# EAGLE library part INA219 (library FlashPCB_Sensors)
INA219BIDR - Current Monitor Regulator High-Side 10mA 8-SOIC Technical Specifications: Function; Current Monitor I2C / SMBUS Compatible Sensing Method: High-Side Accuracy +/- 5% Voltage - Input: 0V ~26V Current - Output: 10mA Component Search: INA219 <[FLASHPCB URL]> Datasheet: INA219 Zerø-Drift, Bidirectional Current/Power Monitor With I2C Interface datasheet (Rev. G) <https://www.ti.com/lit/ds/symlink/ina219.pdf?HQS=dis-dk-null-digikeymode-dsf-pf-null-wwe&ts=1666104449921&ref_url=https%253A%252F%252Fwww.ti.com%252Fgeneral%252Fdocs%252Fsuppproductinfo.tsp%253FdistId%253D10%2526gotoUrl%253Dhttps%253A%252F%252Fwww.ti.com%252Flit%252Fgpn%252Fina219>
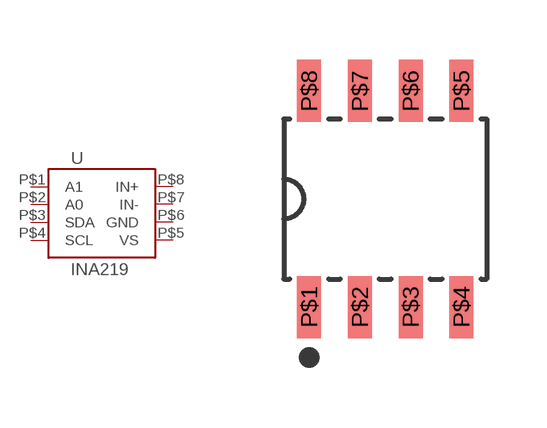
[diagram p11: symbol with the pads of SOIC-8-150MIL-3.9MM; footprint SOIC-8-150MIL-3.9MM]

Designator prefix U

## INA219SOIC-8  [SOIC-8-150MIL-3.9MM]
P$1  A1
P$2  A0
P$3  SDA
P$4  SCL
P$5  VS
P$6  GND
P$7  IN-
P$8  IN+

## Footprint SOIC-8-150MIL-3.9MM (pad centres in mm)
smd 0.6 x 1.55: P$1 -1.905,-2.7; P$2 -0.635,-2.7; P$3 0.635,-2.7; P$4 1.905,-2.7; P$5 1.905,2.7; P$6 0.635,2.7; P$7 -0.635,2.7; P$8 -1.905,2.7